# Altium footprint library SMP-SPE-SMP_EDGE73415-3591.PcbLib: 1 footprints
Each footprint in its own frame and in the unit in brackets; x right, y up, seen from the top. Pads: shape width x height; smd on the part's side, far side on the other; paste and mask are expansions set on the pad; w line width, h text height; cw(c..) or ccw(c..) is an arc to the next point about the centre after c.
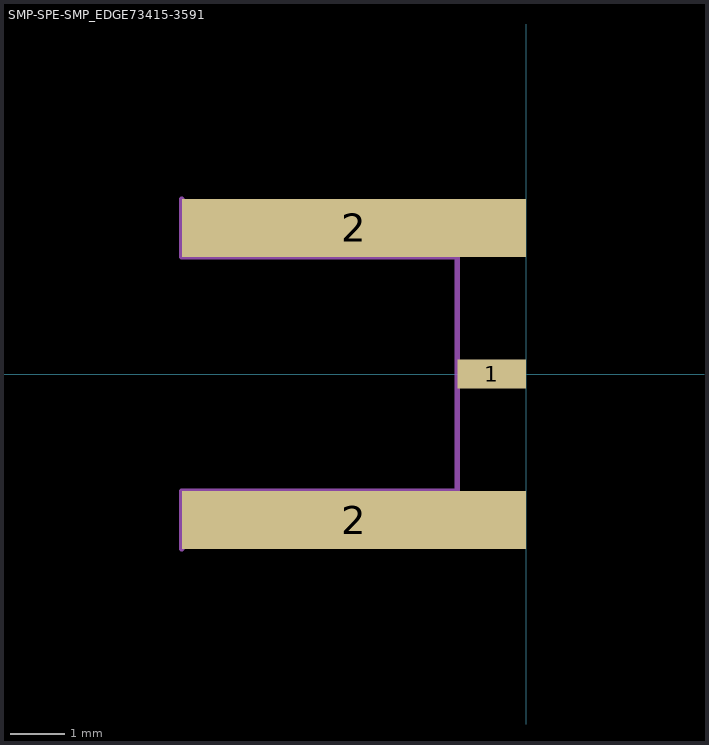
[diagram p0: the footprint, top view; thin cyan lines are the x and y axes]

## SMP-SPE-SMP_EDGE73415-3591 [mm] "SMP edge board mount"
pads (3):
  rect 1.27x0.53 smd mask+0.05: 1(-0.635,0)
  rect 6.35x1.07 smd mask+0.05: 2(-3.175,-2.695) 2(-3.175,2.695)
Mechanical 1:
  lines w0.1: -6.35,-3.226 -6.35,-2.159 -1.27,-2.159 -1.27,2.159 -6.35,2.159 -6.35,3.226
3D body: height 2.44, standoff -1.9, extent -6.35,-3.17 0,3.17